# Altium schematic symbol library WRIS-PSMB.SchLib: 6 symbols
Pins are listed as number, name and electrical type; pins without a type are passive.

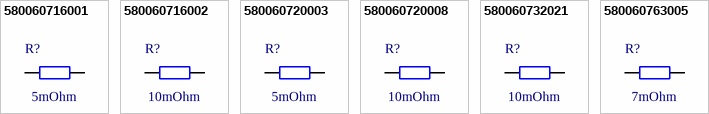
[diagram p0: symbols 580060716001 to 580060763005]

## 580060716001
designator R?, comment 5mOhm
WRIS-PSMB Metal Plate Resistor, SMT, size 0603, 5mOhm, 0.33W, +/-1%; Manufacturer Part Number: 580060716001; Manufacturer: Wurth Elektronik; Case/Size Code: 0603; Rated Current: 8.12A; Temperature Coefficient of Resistance Min: -100ppm/°C; Temperature Coefficient of Resistance Max: 100ppm/°C; Category: Metal Plate Resistors; Match Code: WRIS-PSMB; ComponentLink1Description: Website Link; ComponentLink1URL: https://www.we-online.com/redexpert/article/580060716001?ad; ComponentLink2Description: Datasheet Link; ComponentLink2URL: https://www.we-online.com/redexpert/spec/580060716001?ad; Mount: Surface Mount; Operating Temperature Min: -55°C; Operating Temperature Max: 155°C; Packaging: Tape and Reel; Length: 1.6mm; Width: 0.8mm; Height: 0.35mm; Rated Power: 0.33W; Resistance: 5mOhm; Resistance Tolerance: +/-1%
footprint WRIS-PSMB_0603_580060716001
pins: 1, 2

## 580060716002
designator R?, comment 10mOhm
WRIS-PSMB Metal Plate Resistor, SMT, size 0603, 10mOhm, 0.33W, +/-1%; Manufacturer Part Number: 580060716002; Manufacturer: Wurth Elektronik; Case/Size Code: 0603; Rated Current: 5.74A; Temperature Coefficient of Resistance Min: -100ppm/°C; Temperature Coefficient of Resistance Max: 100ppm/°C; Category: Metal Plate Resistors; Match Code: WRIS-PSMB; ComponentLink1Description: Website Link; ComponentLink1URL: https://www.we-online.com/redexpert/article/580060716002?ad; ComponentLink2Description: Datasheet Link; ComponentLink2URL: https://www.we-online.com/redexpert/spec/580060716002?ad; Mount: Surface Mount; Operating Temperature Min: -55°C; Operating Temperature Max: 155°C; Packaging: Tape and Reel; Length: 1.6mm; Width: 0.8mm; Height: 0.3mm; Rated Power: 0.33W; Resistance: 10mOhm; Resistance Tolerance: +/-1%
footprint WRIS-PSMB_0603_580060716002
pins: 1, 2

## 580060720003
designator R?, comment 5mOhm
WRIS-PSMB Metal Plate Resistor, SMT, size 0805, 5mOhm, 0.5W, +/-1%; Manufacturer Part Number: 580060720003; Manufacturer: Wurth Elektronik; Case/Size Code: 0805; Rated Current: 10A; Temperature Coefficient of Resistance Min: -100ppm/°C; Temperature Coefficient of Resistance Max: 100ppm/°C; Category: Metal Plate Resistors; Match Code: WRIS-PSMB; ComponentLink1Description: Website Link; ComponentLink1URL: https://www.we-online.com/redexpert/article/580060720003?ad; ComponentLink2Description: Datasheet Link; ComponentLink2URL: https://www.we-online.com/redexpert/spec/580060720003?ad; Mount: Surface Mount; Operating Temperature Min: -55°C; Operating Temperature Max: 155°C; Packaging: Tape and Reel; Length: 2mm; Width: 1.25mm; Height: 0.35mm; Rated Power: 0.5W; Resistance: 5mOhm; Resistance Tolerance: +/-1%
footprint WRIS-PSMB_0805_580060720003
pins: 1, 2

## 580060720008
designator R?, comment 10mOhm
WRIS-PSMB Metal Plate Resistor, SMT, size 0805, 10mOhm, 0.5W, +/-1%; Manufacturer Part Number: 580060720008; Manufacturer: Wurth Elektronik; Case/Size Code: 0805; Rated Current: 7.07A; Temperature Coefficient of Resistance Min: -100ppm/°C; Temperature Coefficient of Resistance Max: 100ppm/°C; Category: Metal Plate Resistors; Match Code: WRIS-PSMB; ComponentLink1Description: Website Link; ComponentLink1URL: https://www.we-online.com/redexpert/article/580060720008?ad; ComponentLink2Description: Datasheet Link; ComponentLink2URL: https://www.we-online.com/redexpert/spec/580060720008?ad; Mount: Surface Mount; Operating Temperature Min: -55°C; Operating Temperature Max: 155°C; Packaging: Tape and Reel; Length: 2mm; Width: 1.25mm; Height: 0.22mm; Rated Power: 0.5W; Resistance: 10mOhm; Resistance Tolerance: +/-1%
footprint WRIS-PSMB_0805_580060720008
pins: 1, 2

## 580060732021
designator R?, comment 10mOhm
WRIS-PSMB Metal Plate Resistor, SMT, size 1206, 10mOhm, 1W, +/-1%; Manufacturer Part Number: 580060732021; Manufacturer: Wurth Elektronik; Case/Size Code: 1206; Rated Current: 10A; Temperature Coefficient of Resistance Min: -70ppm/°C; Temperature Coefficient of Resistance Max: 70ppm/°C; Category: Metal Plate Resistors; Match Code: WRIS-PSMB; ComponentLink1Description: Website Link; ComponentLink1URL: https://www.we-online.com/redexpert/article/580060732021?ad; ComponentLink2Description: Datasheet Link; ComponentLink2URL: https://www.we-online.com/redexpert/spec/580060732021?ad; Mount: Surface Mount; Operating Temperature Min: -55°C; Operating Temperature Max: 155°C; Packaging: Tape and Reel; Length: 3.2mm; Width: 1.6mm; Height: 0.28mm; Rated Power: 1W; Resistance: 10mOhm; Resistance Tolerance: +/-1%
footprint WRIS-PSMB_1206_580060732021
pins: 1, 2

## 580060763005
designator R?, comment 7mOhm
WRIS-PSMB Metal Plate Resistor, SMT, size 2512, 7mOhm, 1W, +/-1%; Manufacturer Part Number: 580060763005; Manufacturer: Wurth Elektronik; Case/Size Code: 2512; Rated Current: 12A; Temperature Coefficient of Resistance Min: 100ppm/°C; Category: Metal Plate Resistors; Match Code: WRIS-PSMB; ComponentLink1Description: Website Link; ComponentLink1URL: https://www.we-online.com/redexpert/article/580060763005?ad; ComponentLink2Description: Datasheet Link; ComponentLink2URL: https://www.we-online.com/redexpert/spec/580060763005?ad; Mount: Surface Mount; Operating Temperature Min: -55°C; Operating Temperature Max: 155°C; Packaging: Tape and Reel; Length: 6.3mm; Width: 3.1mm; Height: 0.35mm; Rated Power: 1W; Resistance: 7mOhm; Resistance Tolerance: +/-1%; Temperature Coefficient of Resistance Max: 100ppm/°C
footprint WRIS-PSMB_2512_580060763005
pins: 1, 2